# EAGLE library part MC1496 (library mc1496)
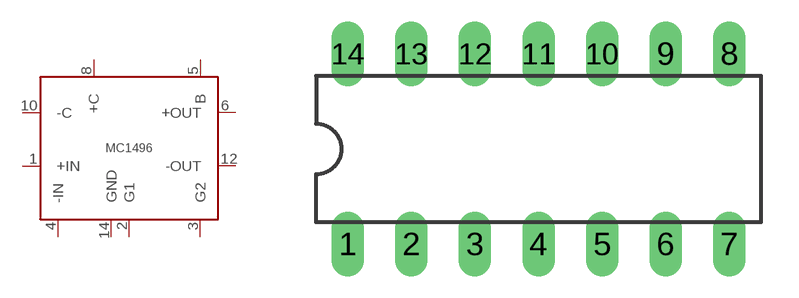
[diagram p0: symbol with the pads of DIL14; footprint DIL14]

Designator prefix -

## MC1496  [DIL14]
1  +IN
2  G1
3  G2
4  -IN
5  B
6  +OUT
8  +C
10  -C
12  -OUT
14  GND

## Footprint DIL14 (pad centres in mm)
drill 0.8 long: 1 -7.62,-3.81; 2 -5.08,-3.81; 3 -2.54,-3.81; 4 0,-3.81; 5 2.54,-3.81; 6 5.08,-3.81; 7 7.62,-3.81; 8 7.62,3.81; 9 5.08,3.81; 10 2.54,3.81; 11 0,3.81; 12 -2.54,3.81; 13 -5.08,3.81; 14 -7.62,3.81